# EAGLE library part 691136800008 (library WR-TBL Wire Protector)
WR-TBL Serie 1368 - 10.00 mm Vertical Cable Entry w. Pressure Clamp KIND PROPERTIES Pitch 10 mm MATERIAL PROPERTIES Insulator Material PC Insulator Flammability Rating UL94 V-0 Insulator Color Grey Contact Material Copper Alloy Contact Plating Nickel over Tin Terminal Screw Material Steel Terminal Screw Plating Zinc Wire Guard Material Copper Alloy GENERAL INFORMATION Operating Temperature -30 up to +120 °C Compliance Lead free / RoHS ELECTRICAL PROPERTIES IR UL 16 A IR VDE 24 A Working Voltage [UL] 300 V (AC) Working Voltage [VDE] 750 V (AC) Withstanding Voltage [UL] 1600 V (AC) Withstanding Voltage [cULus] 1600 V (AC) Withstanding Voltage [VDE] 3000 V (AC) Contact Resistance [UL] 20 mΩ Contact Resistance [cULus] 20 mΩ Contact Resistance [VDE] 20 mΩ MECHANICAL PROPERTIES Wire Strip Length 7 (mm) Screw M3 Solid Wire Section (AWG) 30 to 14 (AWG) Solid Wire Section (Metric) 0.05 to 2.08 (mm²) Stranded Wire Section (AWG) 30 to 14 (AWG) Stranded Wire Section (Metric) 0.05 to 2.08 (mm²) CERTIFICATION cULus Approval E150931 UL Approval E150931 CAT N: CZZ (1) VDE Approval 40021377 VDE Approval 40021377 TYPE: CZZ PACKAGING PROPERTIES Packaging Box <https://katalog.we-online.com/media/images/v2/o58335v209%20Family_WR-TBL_10_00_1368_VERTICAL_ENTRY_W_PRESSURE_CLAMP_6911368000XX.jpg> Details see: https://katalog.we-online.com/en/em/TBL_10_00_1368_VERTICAL_ENTRY_W_PRESSURE_CLAMP_6911368000XX Updated by Ella Wu 2019-11-11 2019(C) Wurth Elektronik
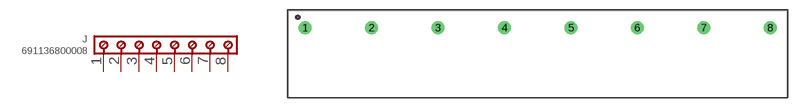
[diagram p0: symbol with the pads of 691136800008; footprint 691136800008]

Designator prefix J

## 691136800008 (DATASHEET-URL: https://www.we-online.com/catalog/datasheet/691136800008.pdf; IR-UL: 16A; IR-VDE: 24A; MOUNT: THT; PART-NUMBER: 691136800008; PINS: 8; PITCH: 10mm; TYPE: Vertical; VALUE: 691136800008; WIRE: 30 to 14 (AWG) 0.05 to 2.08 (mm²); WORKING-VOLTAGE-UL: 300V(AC); WORKING-VOLTAGE-VDE: 750V(AC))  [691136800008]
1  1  pas
2  2  pas
3  3  pas
4  4  pas
5  5  pas
6  6  pas
7  7  pas
8  8  pas

## Footprint 691136800008 (pad centres in mm)
WR-TBL Serie 1368 - 10.00 mm Vertical Cable Entry w. Pressure Clamp Max Height = 9mm , Pitch 10mm , 8 Pins
drill 1.3: 1 -35,0; 2 -25,0; 3 -15,0; 4 -5,0; 5 5,0; 6 15,0; 7 25,0; 8 35,0